# Altium footprint library LPSON_TRAN.PcbLib: 31 footprints (part 2 of 2)
Each footprint in its own frame and in the unit in brackets; x right, y up, seen from the top. Pads: shape width x height; smd on the part's side, far side on the other; paste and mask are expansions set on the pad; w line width, h text height; cw(c..) or ccw(c..) is an arc to the next point about the centre after c.
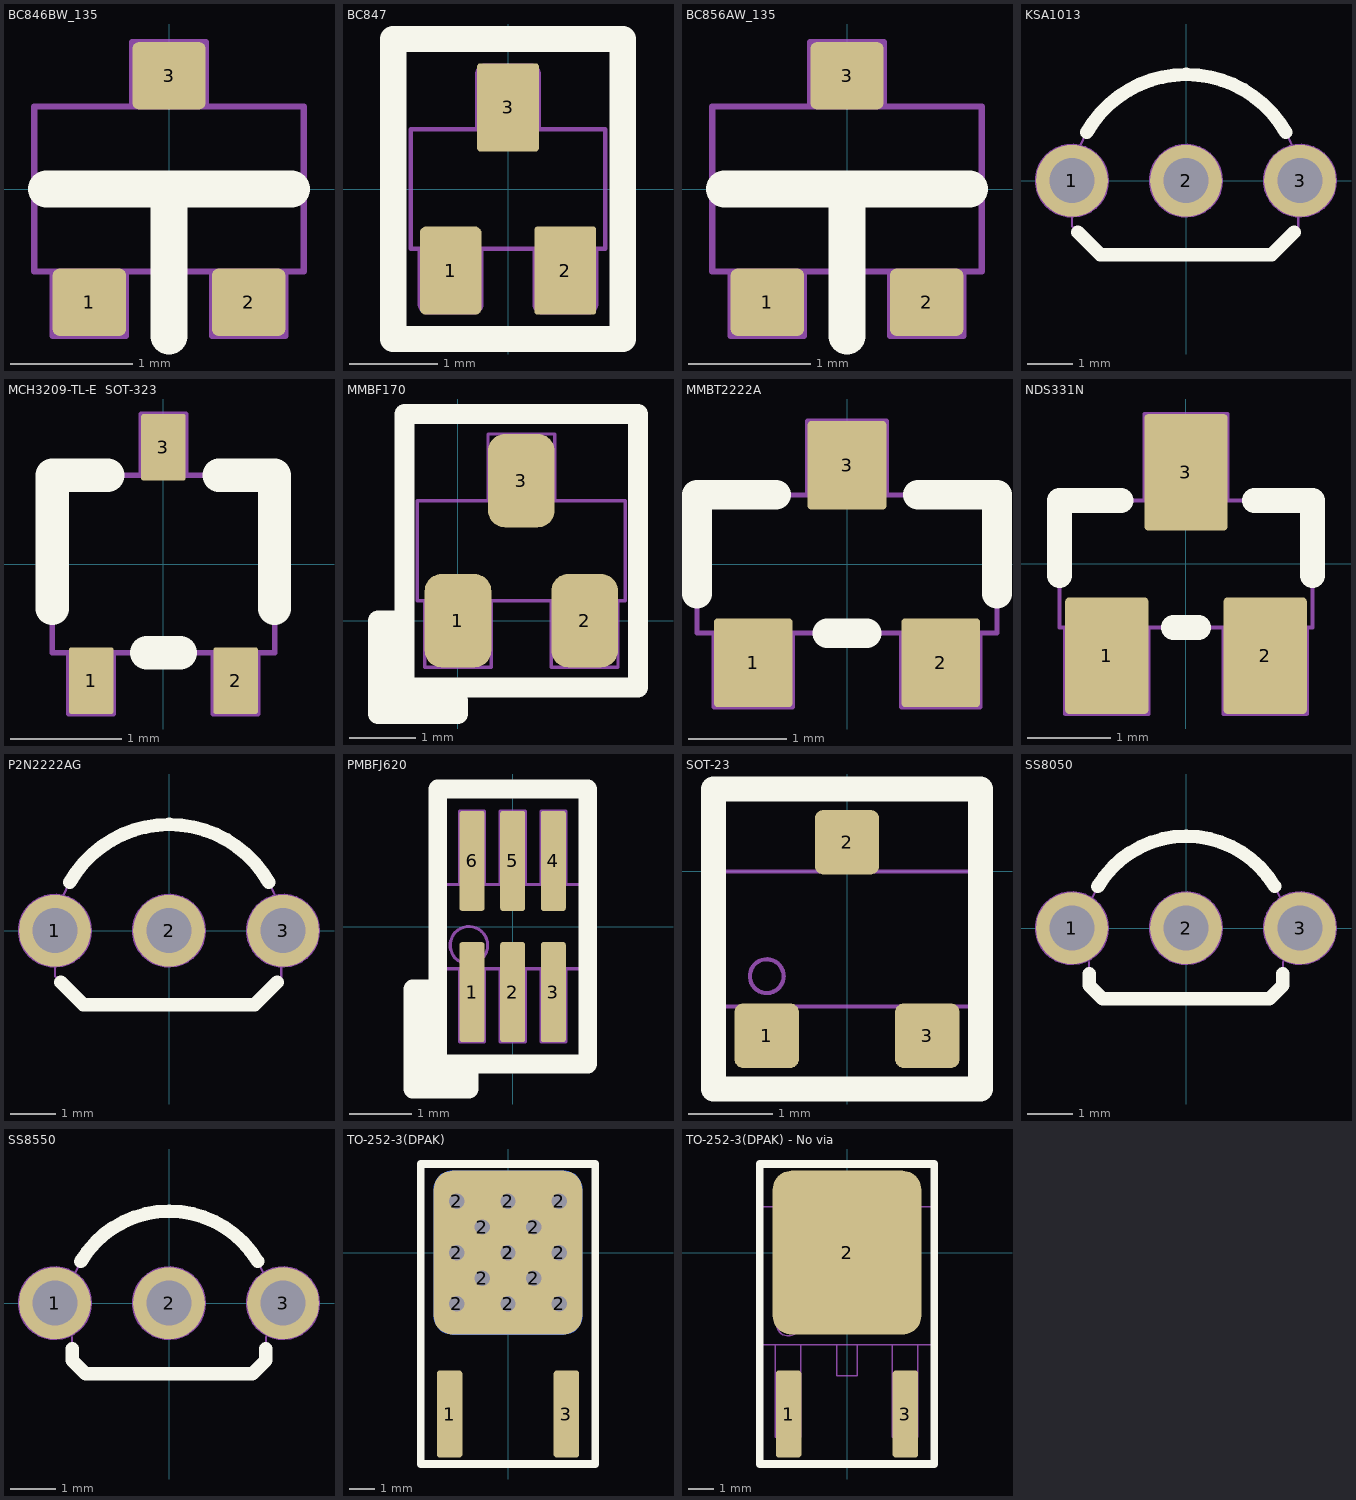
[diagram p1: the footprints below, top view; thin cyan lines are the x and y axes]

## BC846BW_135 [mm] "BC846 npn 65V, 100mA SOT323 SC-70"
height 1.1
pads (3):
  rrect20% 0.6x0.55 smd mask+0.1: 1(-0.65,-0.925) 2(0.65,-0.925) 3(0,0.925)
Top Overlay:
  lines w0.3: -1,0 1,0 ; 0,-1.2 0,0
Mechanical 1:
  lines w0.05: -1.1,-0.675 1.1,-0.675 1.1,0.675 -1.1,0.675 -1.1,-0.675 ; -0.95,-1.2 -0.35,-1.2 -0.35,-0.675 -0.95,-0.675 -0.95,-1.2 ; -0.3,0.675 -0.3,1.2 0.3,1.2 0.3,0.675 -0.3,0.675 ; 0.35,-1.2 0.35,-0.675 0.95,-0.675 0.95,-1.2 0.35,-1.2
  text "B" at -0.85,-0.525 h0.5
  text "C" at -0.15,0.075 h0.5
  text "E" at 0.55,-0.525 h0.5
  text "Q?" at 0,0 h0.8
3D body "User Library-sc70-3.step": height 1, standoff 0, extent -1.05,-1.15 1.05,1.15

## BC847 [mm] "SOT323-123-BEC"
height 1.4
pads (3):
  rrect20% 0.7x1 smd: 1(-0.65,-0.925)
  rrect10% 0.7x1 smd: 2(0.65,-0.925) 3(0,0.925)
Top Overlay:
  lines w0.3: -1.3,-1.7 1.3,-1.7 1.3,1.7 -1.3,1.7 -1.3,-1.7
Mechanical 1:
  lines w0.05: -1,-0.675 -1,-1.3 ccw(c-0.9,-1.3) -0.9,-1.4 -0.4,-1.4 ccw(c-0.4,-1.3) -0.3,-1.3 -0.3,-0.675 ; -0.35,0.675 -0.35,1.3 cw(c-0.25,1.3) -0.25,1.4 0.25,1.4 cw(c0.25,1.3) 0.35,1.3 0.35,0.675 ; 0.3,-0.675 0.3,-1.3 ccw(c0.4,-1.3) 0.4,-1.4 0.9,-1.4 ccw(c0.9,-1.3) 1,-1.3 1,-0.675 ; -1.1,-0.675 -1.1,0.675 1.1,0.675 1.1,-0.675 -1.1,-0.675
  text "Q?" at 0,0 h0.5
  text "B" at -0.7,-1.3 h0.5
  text "C" at -0.2,0.8 h0.5
  text "E" at 0.6,-1.3 h0.5
3D body "User Library-SOT323 (SC70-3)-1.STEP": height 1.1, standoff 0, extent -1.1,-1.122 1.1,1.123

## BC856AW_135 [mm] "BC856 PNP 65V, 100mA SOT323 SC-70"
height 1.1
pads (3):
  rrect20% 0.6x0.55 smd mask+0.1: 1(-0.65,-0.925) 2(0.65,-0.925) 3(0,0.925)
Top Overlay:
  lines w0.3: -1,0 1,0 ; 0,-1.2 0,0
Mechanical 1:
  lines w0.05: -1.1,-0.675 1.1,-0.675 1.1,0.675 -1.1,0.675 -1.1,-0.675 ; -0.95,-1.2 -0.35,-1.2 -0.35,-0.675 -0.95,-0.675 -0.95,-1.2 ; -0.3,0.675 -0.3,1.2 0.3,1.2 0.3,0.675 -0.3,0.675 ; 0.35,-1.2 0.35,-0.675 0.95,-0.675 0.95,-1.2 0.35,-1.2
  text "B" at -0.85,-0.525 h0.5
  text "C" at -0.15,0.075 h0.5
  text "E" at 0.55,-0.525 h0.5
  text "Q?" at 0,0 h0.8
3D body "User Library-sc70-3.step": height 1, standoff 0, extent -1.05,-1.15 1.05,1.15

## KSA1013 [mm] "TO-92 Bent Lead, Flat Index; 3 In-Line, Axial Leads; Body Dia. 4.5mm; Leads 0.51 x 0.48 mm (max)"
height 6.5
pads (3):
  round 1.6 hole 1 mask+0.1: 1(-2.54,0) 2(0,0)
  round 1.6 hole 1: 3(2.54,0)
Top Overlay:
  lines w0.3: -2.413,-1.143 -1.905,-1.651 1.905,-1.651 2.413,-1.143 ; -2.212,1.074 cw(c0.006,-0.185) 2.221,1.079
Mechanical 1:
  circle w0.05: c-2.54,0 r0.8
  circle w0.05: c0,0 r0.8
  circle w0.05: c2.54,0 r0.8
  lines w0.05: -2.54,-0.8 -2.54,-1.016 -1.905,-1.651 1.905,-1.651 2.5,-1.056 2.5,-0.8 ; -2.351,0.789 cw(c0.006,-0.185) 2.364,0.785
  text "B" at 2.286,-0.381 h0.8
  text "C" at -0.254,-0.381 h0.8
  text "E" at -2.794,-0.381 h0.8
Mechanical 15:
  lines w0.1: -0.5,0 0.5,0 ; 0,-0.5 0,0.5
3D body "TO-92_Bent.STEP": height 10, standoff -3, extent -2.79,-1.59 2.79,2.613

## MCH3209-TL-E  SOT-323 [mm] "TRANS NPN 30V 3A MCPH3  SOT-323"
height 0.9
pads (3):
  rrect10% 0.4x0.6 smd mask+0.1: 1(-0.65,-1.05) 2(0.65,-1.05) 3(0,1.05)
Top Overlay:
  lines w0: 1,-0.4 1.1,-0.4
  lines w0.3: -1,-0.4 -1,0.8 -0.5,0.8 ; -0.15,-0.8 0.15,-0.8 ; 0.5,0.8 1,0.8 1,-0.4
Mechanical 2:
  lines w0.05: -0.851,-0.802 -0.851,-1.347 -0.45,-1.347 -0.45,-0.801 ; -0.201,0.801 -0.2,0.801 -0.2,1.347 0.201,1.347 0.201,0.802 0.204,0.802 ; 0.449,-0.802 0.449,-1.347 0.85,-1.347 0.85,-0.801 ; -1,-0.8 -1,0.8 1,0.8 1,-0.8 -1,-0.8
  text "E" at 0.55,-0.65 h0.5
  text "C" at -0.15,0.2 h0.5
  text "B" at -0.85,-0.65 h0.5
3D body "User Library-sc70-3.step": height 0.9, standoff -0.1, extent -1.05,-1.15 1.05,1.15

## MMBF170 [mm] "SOT23-GDS N-Channel Enhancement ModeField Effect Transistor"
height 1.3
pads (3):
  rrect50% 1x1.4 smd: 1(0,0) 2(1.9,0) 3(0.95,2.1)
Top Overlay:
  lines w0.3: -1.2,-1.4 -1.2,0 -0.8,0 -1,0 -1,-1.2 0,-1.2 0,-1.4 -1.2,-1.4 ; -0.8,-1 -0.8,3.1 2.7,3.1 2.7,-1 -0.8,-1
Mechanical 2:
  lines w0.05: -0.61,0.3 -0.61,1.8 2.51,1.8 2.51,0.3 -0.61,0.3 ; -0.5,-0.7 -0.5,0.3 0.5,0.3 0.5,-0.7 -0.5,-0.7 ; 0.45,1.8 1.45,1.8 1.45,2.8 0.45,2.8 0.45,1.8 ; 1.4,-0.7 1.4,0.3 2.4,0.3 2.4,-0.7 1.4,-0.7
  text "D" at 0.7,1.9 h0.8
  text "G" at -0.3,-0.6 h0.8
  text "S" at 1.7,-0.6 h0.8
3D body "SOT23.STEP": height 1.08, standoff 0, extent -0.55,-0.27 2.45,2.37

## MMBT2222A [mm] "SOT-23"
height 1.11
pads (3):
  rrect10% 0.8x0.9 smd mask+0.1: 1(-0.95,-1) 2(0.95,-1) 3(0,1)
Top Overlay:
  lines w0.3: -1.52,-0.3 -1.52,0.7 -0.72,0.7 ; -0.2,-0.7 0.2,-0.7 ; 0.72,0.7 1.52,0.7 1.52,-0.3
Mechanical 1:
  lines w0.05: -1.35,-0.7 -1.52,-0.7 -1.52,0.7 -0.4,0.7 ; -1.35,-0.7 -1.35,-1.45 -0.55,-1.45 -0.55,-0.7 ; -1.35,-0.7 -0.55,-0.7 ; -0.55,-0.7 0.55,-0.7 ; -0.4,0.7 -0.4,1.45 0.4,1.45 0.4,0.7 ; -0.4,0.7 0.4,0.7 ; 0.4,0.7 1.52,0.7 1.52,-0.7 1.35,-0.7 ; 0.55,-0.7 0.55,-1.45 1.35,-1.45 1.35,-0.7 ; 0.55,-0.7 1.35,-0.7
  text "C" at -0.15,0.9 h0.4
  text "E" at 0.85,-1.3 h0.4
  text "B" at -1.05,-1.3 h0.4
  text "Q?" at -0.03,0 h0.4

## NDS331N [mm] "SuperSOT-3 N channel Mode FET"
height 1.12
pads (3):
  rrect10% 1x1.4 smd mask+0.1: 1(-0.95,-1.1) 2(0.95,-1.1) 3(0,1.1)
Top Overlay:
  lines w0.3: -1.52,-0.14 -1.52,0.76 -0.78,0.76 ; -0.15,-0.76 0.15,-0.76 ; 0.82,0.76 1.52,0.76 1.52,-0.14
Mechanical 1:
  lines w0.05: -1.52,-0.76 1.52,-0.76 1.52,0.76 -1.52,0.76 -1.52,-0.76 ; -1.45,-1.8 -0.45,-1.8 -0.45,-0.76 -1.45,-0.76 -1.45,-1.8 ; -0.5,0.76 -0.5,1.8 0.5,1.8 0.5,0.76 -0.5,0.76 ; 0.45,-1.8 0.45,-0.76 1.45,-0.76 1.45,-1.8 0.45,-1.8
  text "G" at -1.1,-1.4 h0.4
  text "S" at 0.8,-1.4 h0.4
  text "D" at -0.1,1 h0.4
  text "Q?" at 0,0 h0.4

## P2N2222AG [mm] "TO-92 Bent Lead, Flat Index; 3 In-Line, Axial Leads; Body Dia. 4.5mm; Leads 0.51 x 0.48 mm (max)"
height 6.5
pads (3):
  round 1.6 hole 1 mask+0.1: 1(-2.54,0) 2(0,0)
  round 1.6 hole 1: 3(2.54,0)
Top Overlay:
  lines w0.3: -2.413,-1.143 -1.905,-1.651 1.905,-1.651 2.413,-1.143 ; -2.212,1.074 cw(c0.006,-0.185) 2.221,1.079
Mechanical 1:
  circle w0.05: c2.54,0 r0.8
  circle w0.05: c0,0 r0.8
  circle w0.05: c-2.54,0 r0.8
  lines w0.05: -2.54,-0.8 -2.54,-1.016 -1.905,-1.651 1.905,-1.651 2.5,-1.056 2.5,-0.8 ; -2.351,0.789 cw(c0.006,-0.185) 2.364,0.785
  text "E" at 2.4,-0.4 h0.8
  text "C" at -2.8,-0.4 h0.8
  text "B" at -0.2,-0.4 h0.8
Mechanical 15:
  lines w0.1: -0.5,0 0.5,0 ; 0,-0.5 0,0.5
3D body "TO-92_Bent.STEP": height 10, standoff -3, extent -2.79,-1.59 2.79,2.613

## PMBFJ620 [mm] "Dual N-channel field-effect transistor"
height 1.1
pads (6):
  rrect20% 0.4x1.6 smd mask+0.1: 1(-0.65,-1.05) 2(0,-1.05) 3(0.65,-1.05) 4(0.65,1.05) 5(0,1.05) 6(-0.65,1.05)
Top Overlay:
  lines w0.3: -1.4,-1 -1.4,-2.4 -0.7,-2.4 ; -1.2,-1 -1.6,-1 -1.6,-2.6 -0.7,-2.6 -0.7,-2.2 ; -1.2,-2.2 1.2,-2.2 1.2,2.2 -1.2,2.2 -1.2,-2.2
Mechanical 1:
  circle w0.05: c-0.7,-0.3 r0.3
  lines w0.05: -1.1,-0.675 1.1,-0.675 1.1,0.675 -1.1,0.675 -1.1,-0.675 ; -0.85,-1.85 -0.45,-1.85 -0.45,-0.675 -0.85,-0.675 -0.85,-1.85 ; -0.85,0.675 -0.85,1.85 -0.45,1.85 -0.45,0.675 -0.85,0.675 ; -0.2,-1.85 -0.2,-0.675 0.2,-0.675 0.2,-1.85 -0.2,-1.85 ; -0.2,0.675 -0.2,1.85 0.2,1.85 0.2,0.675 -0.2,0.675 ; 0.45,-1.85 0.45,-0.675 0.85,-0.675 0.85,-1.85 0.45,-1.85 ; 0.45,0.675 0.45,1.85 0.85,1.85 0.85,0.675 0.45,0.675
  text "6" at -0.87,0.09 h0.5
  text "4" at 0.64,0.1 h0.5
  text "3" at 0.66,-0.58 h0.5
3D body "User Library-SOT363-2.step": height 1.1, standoff 0, extent -1.1,-1.2 1.1,1.2

## SOT-23 [mm]
height 1.25
pads (3):
  rrect25% 0.76x0.76 smd mask+0.1: 1(-0.95,-1.945) 2(0,0.345) 3(0.95,-1.945)
Top Overlay:
  lines w0.3: -1.58,-2.575 -1.58,0.975 1.58,0.975 1.58,-2.575 -1.58,-2.575
Mechanical 2:
  circle w0.05: c-0.95,-1.24 r0.2
  lines w0.05: -1.15,-1.6 -1.15,-2.15 -0.75,-2.15 -0.75,-1.6 ; -0.2,0 -0.2,0.55 0.2,0.55 0.2,0 ; 0.75,-1.6 0.75,-2.15 1.15,-2.15 1.15,-1.6 ; -1.51,-1.6 1.51,-1.6 1.51,0 -1.51,0 -1.51,-1.6
3D body "SW3DPS-SOT-23-DEFAULT.STEP": height 1.15, standoff 0.05, extent -1.5,-2.05 1.5,0.45

## SS8050 [mm] "TO-92 Bent Lead, Flat Index; 3 In-Line, Axial Leads; Body Dia. 4.5mm; Leads 0.51 x 0.48 mm (max)"
height 6
pads (3):
  round 1.6 hole 1 mask+0.1: 1(-2.54,0) 2(0,0) 3(2.54,0)
Top Overlay:
  lines w0.3: -2.159,-1.016 -2.159,-1.27 -1.859,-1.57 1.859,-1.57 2.159,-1.27 2.159,-1.016 ; -1.963,0.928 cw(c0.006,-0.242) 1.973,0.931
Mechanical 1:
  circle w0.05: c-2.54,0 r0.8
  circle w0.05: c0,0 r0.8
  circle w0.05: c2.54,0 r0.8
  lines w0.05: -2.159,-0.762 -2.159,-1.27 -1.859,-1.57 1.859,-1.57 2.159,-1.27 2.159,-0.762 ; -2.098,0.663 cw(c0.006,-0.242) 2.108,0.668
  text "E" at -2.794,-0.381 h0.8
  text "B" at -0.254,-0.381 h0.8
  text "C" at 2.286,-0.381 h0.8
Mechanical 15:
  lines w0.1: -0.5,0 0.5,0 ; 0,-0.5 0,0.5
3D body "TO-92_Bent.STEP": height 10, standoff -3, extent -2.79,-1.59 2.79,2.613

## SS8550 [mm] "TO-92 Bent Lead, Flat Index; 3 In-Line, Axial Leads; Body Dia. 4.5mm; Leads 0.51 x 0.48 mm (max)"
height 6
pads (3):
  round 1.6 hole 1 mask+0.1: 1(-2.54,0) 2(0,0) 3(2.54,0)
Top Overlay:
  lines w0.3: -2.159,-1.016 -2.159,-1.27 -1.859,-1.57 1.859,-1.57 2.159,-1.27 2.159,-1.016 ; -1.963,0.928 cw(c0.006,-0.242) 1.973,0.931
Mechanical 1:
  circle w0.05: c-2.54,0 r0.8
  circle w0.05: c0,0 r0.8
  circle w0.05: c2.54,0 r0.8
  lines w0.05: -2.159,-0.762 -2.159,-1.27 -1.859,-1.57 1.859,-1.57 2.159,-1.27 2.159,-0.762 ; -2.098,0.663 cw(c0.006,-0.242) 2.108,0.668
  text "E" at -2.794,-0.381 h0.8
  text "B" at -0.254,-0.381 h0.8
  text "C" at 2.286,-0.381 h0.8
Mechanical 15:
  lines w0.1: -0.5,0 0.5,0 ; 0,-0.5 0,0.5
3D body "TO-92_Bent.STEP": height 10, standoff -3, extent -2.79,-1.59 2.79,2.613

## TO-252-3(DPAK) [mm]
height 4.83
pads (17):
  rrect25% 1x3.4 smd: 1(-2.28,-6.3) 3(2.28,-6.3)
  round 1 hole 0.6: 2(-2,-2) 2(-2,0) 2(-2,2) 2(-1,-1) 2(-1,1) 2(0,-2) 2(0,0) 2(0,2) 2(1,-1) 2(1,1) 2(2,-2) 2(2,0) 2(2,2)
  rrect25% 5.8x6.4 smd: 2(0,0)
  rrect25% 5.8x6.4 smd far side: 2(0,0)
Top Overlay:
  lines w0.3: -3.4,-8.25 -3.4,3.46 3.4,3.46 3.4,-8.25 -3.4,-8.25
3D body "User Library-DPAK_TO-252AA.STEP": height 2.37, standoff -0.03, extent -3.367,-7.3 3.367,2.8

## TO-252-3(DPAK) - No via [mm]
height 4.83
pads (3):
  rrect25% 1x3.4 smd: 1(-2.28,-6.3) 3(2.28,-6.3)
  rrect25% 5.8x6.4 smd: 2(0,0)
Top Overlay:
  lines w0.3: -3.4,-8.25 3.4,-8.25 3.4,3.46 -3.4,3.46 -3.4,-8.25
Mechanical 2:
  circle w0.05: c-2.3,-2.8 r0.447
  lines w0.05: -2.8,-3.6 -2.8,-7.2 -1.8,-7.2 -1.8,-3.6 ; -2.8,1.8 -2.8,2.2 -2.4,2.8 2.4,2.8 2.8,2.2 2.8,1.8 ; -0.4,-3.6 -0.4,-4.8 0.4,-4.8 0.4,-3.6 ; 1.76,-3.6 1.76,-7.2 2.76,-7.2 2.76,-3.6 ; -3.4,-3.6 -3.4,1.8 3.4,1.8 3.4,-3.6 -3.4,-3.6
3D body "User Library-DPAK_TO-252AA.STEP": height 2.37, standoff -0.03, extent -3.367,-7.3 3.367,2.8